# Altium footprint library WR-TBL_Spring Clamp_3.50mm.PcbLib: 77 footprints (part 4 of 5)
Each footprint in its own frame and in the unit in brackets; x right, y up, seen from the top. Pads: shape width x height; smd on the part's side, far side on the other; paste and mask are expansions set on the pad; w line width, h text height; cw(c..) or ccw(c..) is an arc to the next point about the centre after c.
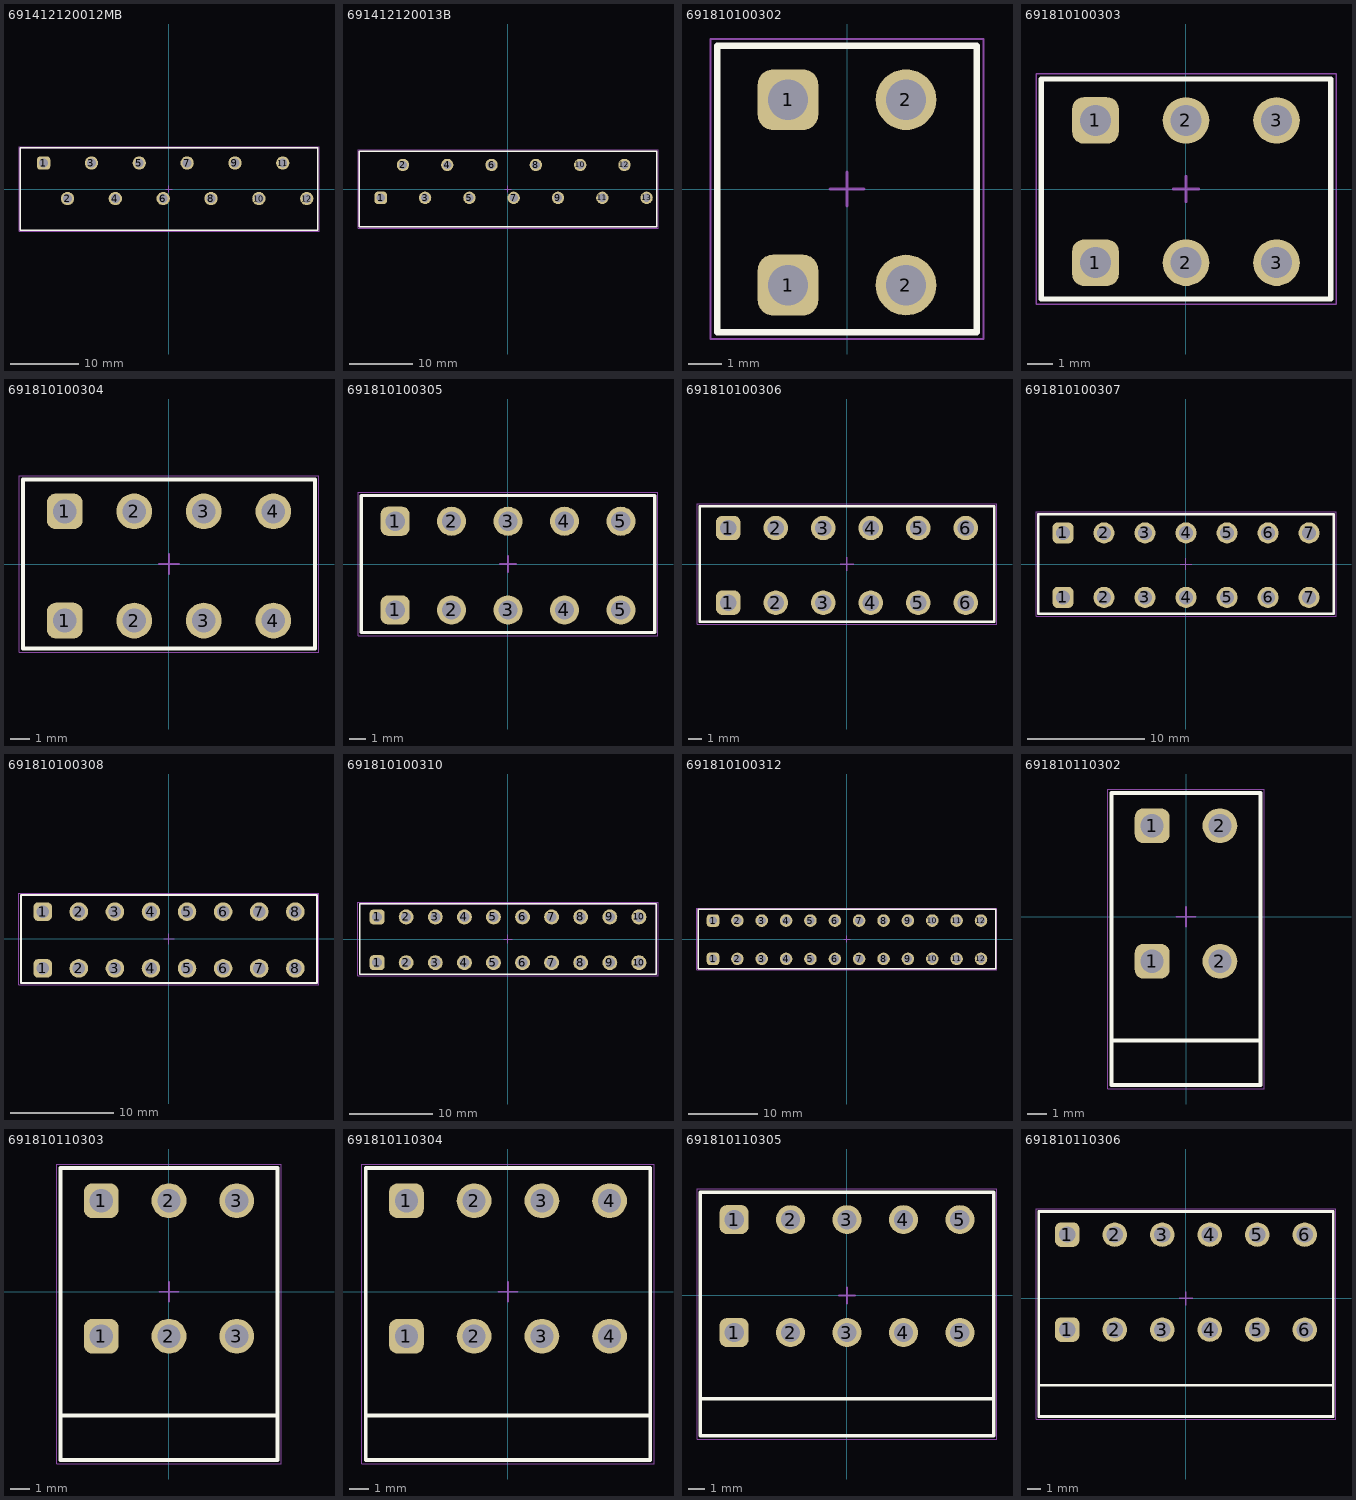
[diagram p3: the footprints below, top view; thin cyan lines are the x and y axes]

## 691412120012MB [mm] "3,5mm - Spring clamp/Screw less - 45¡ã entry - 12p"
height 11.5
pads (12):
  rrect50% 1.95x1.95 hole 1.3: 1(-18.35,3.8)
  round 1.95 hole 1.3: 2(-14.85,-1.4) 3(-11.35,3.8) 4(-7.85,-1.4) 5(-4.35,3.8) 6(-0.85,-1.4) 7(2.65,3.8) 8(6.15,-1.4) 9(9.65,3.8) 10(13.15,-1.4) 11(16.65,3.8) 12(20.15,-1.4)
Top Overlay:
  lines w0.2: -21.75,-6 21.75,-6 21.75,6 -21.75,6 -21.75,-6
Top Assembly:
  lines w0.1: -21.75,-6 -21.75,6 21.75,6 21.75,-6 -21.75,-6
Top Designator:
  text ".Designator" at -3.647,-0.357 h1
Top 3D Body:
  lines w0.1: -21.75,-6 21.75,-6 21.75,6 -21.75,6 -21.75,-6
Top Courtyard:
  lines w0.05: -21.95,-6.2 -21.95,6.2 21.95,6.2 21.95,-6.2 -21.95,-6.2
Top Component Center:
  lines w0.1: -0.5,0 0.5,0 ; 0,-0.5 0,0.5
3D body "691412120012MB.stp": height 12.85, standoff -3.45, extent -21.75,-6 21.75,6

## 691412120013B [mm] "3,5mm - Spring clamp/Screw less - 45¡ã entry - 13p"
height 12.8
pads (13):
  rrect50% 1.95x1.95 hole 1.3: 1(-20.1,-1.4)
  round 1.95 hole 1.3: 2(-16.6,3.8) 3(-13.1,-1.4) 4(-9.6,3.8) 5(-6.1,-1.4) 6(-2.6,3.8) 7(0.9,-1.4) 8(4.4,3.8) 9(7.9,-1.4) 10(11.4,3.8) 11(14.9,-1.4) 12(18.4,3.8) 13(21.9,-1.4)
Top Overlay:
  lines w0.2: -23.5,-6 23.5,-6 23.5,6 -23.5,6 -23.5,-6
Top Assembly:
  lines w0.1: -23.5,-6 -23.5,6 23.5,6 23.5,-6 -23.5,-6
Top Designator:
  text ".Designator" at -3.647,-0.357 h1
Top 3D Body:
  lines w0.1: -23.5,-6 23.5,-6 23.5,6 -23.5,6 -23.5,-6
Top Courtyard:
  lines w0.05: -23.7,-6.2 23.7,-6.2 23.7,6.2 -23.7,6.2 -23.7,-6.2
Top Component Center:
  lines w0.1: -0.5,0 0.5,0 ; 0,-0.5 0,0.5
3D body "691412120013B.stp": height 12.85, standoff -3.45, extent -23.5,-6 23.5,6

## 691810100302 [mm] "Terminal Block, Black, Screwless Vertical, pitch 3.5mm, 2p"
height 16.1
pads (4):
  rrect50% 1.8x1.8 hole 1.2: 1(-1.75,-2.85) 1(-1.75,2.65)
  round 1.8 hole 1.2: 2(1.75,-2.85) 2(1.75,2.65)
Top Overlay:
  lines w0.2: -3.85,-4.25 3.85,-4.25 3.85,4.25 -3.85,4.25 -3.85,-4.25
Top Assembly:
  lines w0.1: -3.85,-4.25 3.85,-4.25 3.85,4.25 -3.85,4.25 -3.85,-4.25
Top Designator:
  text ".Designator" at -3.647,-0.357 h1
Top 3D Body:
  lines w0.1: -3.85,-4.25 3.85,-4.25 3.85,4.25 -3.85,4.25 -3.85,-4.25
Top Courtyard:
  lines w0.05: -4.05,-4.45 4.05,-4.45 4.05,4.45 -4.05,4.45 -4.05,-4.45
Top Component Center:
  lines w0.1: -0.5,0 0.5,0 ; 0,-0.5 0,0.5
3D body "691810100002.stp": height 15.2, standoff -2.41, extent -3.85,-4.25 3.85,4.25

## 691810100303 [mm] "Terminal Block, Black, Screwless Vertical, pitch 3.5mm, 3p"
height 16.1
pads (6):
  rrect50% 1.8x1.8 hole 1.2: 1(-3.5,-2.85) 1(-3.5,2.65)
  round 1.8 hole 1.2: 2(0,-2.85) 2(0,2.65) 3(3.5,-2.85) 3(3.5,2.65)
Top Overlay:
  lines w0.2: -5.6,-4.25 -5.6,4.25 5.6,4.25 5.6,-4.25 -5.6,-4.25
Top Assembly:
  lines w0.1: -5.6,-4.25 -5.6,4.25 5.6,4.25 5.6,-4.25 -5.6,-4.25
Top Designator:
  text ".Designator" at -3.647,-0.357 h1
Top 3D Body:
  lines w0.1: -5.6,-4.25 -5.6,4.25 5.6,4.25 5.6,-4.25 -5.6,-4.25
Top Courtyard:
  lines w0.05: -5.8,-4.45 -5.8,4.45 5.8,4.45 5.8,-4.45 -5.8,-4.45
Top Component Center:
  lines w0.1: -0.5,0 0.5,0 ; 0,-0.5 0,0.5
3D body "691810100003.stp": height 15.2, standoff -2.41, extent -5.6,-4.25 5.6,4.25

## 691810100304 [mm] "Terminal Block, Black, Screwless Vertical, pitch 3.5mm, 4p"
height 16.1
pads (8):
  rrect50% 1.8x1.8 hole 1.2: 1(-5.25,-2.85) 1(-5.25,2.65)
  round 1.8 hole 1.2: 2(-1.75,-2.85) 2(-1.75,2.65) 3(1.75,-2.85) 3(1.75,2.65) 4(5.25,-2.85) 4(5.25,2.65)
Top Overlay:
  lines w0.2: -7.35,-4.25 7.35,-4.25 7.35,4.25 -7.35,4.25 -7.35,-4.25
Top Assembly:
  lines w0.1: -7.35,-4.25 7.35,-4.25 7.35,4.25 -7.35,4.25 -7.35,-4.25
Top Designator:
  text ".Designator" at -3.647,-0.357 h1
Top 3D Body:
  lines w0.1: -7.35,-4.25 7.35,-4.25 7.35,4.25 -7.35,4.25 -7.35,-4.25
Top Courtyard:
  lines w0.05: -7.55,-4.45 7.55,-4.45 7.55,4.45 -7.55,4.45 -7.55,-4.45
Top Component Center:
  lines w0.1: -0.5,0 0.5,0 ; 0,-0.5 0,0.5
3D body "691810100004.stp": height 15.2, standoff -2.41, extent -7.35,-4.25 7.35,4.25

## 691810100305 [mm] "Terminal Block, Black, Screwless Vertical, pitch 3.5mm, 5p"
height 16.1
pads (10):
  rrect50% 1.8x1.8 hole 1.2: 1(-7,-2.85) 1(-7,2.65)
  round 1.8 hole 1.2: 2(-3.5,-2.85) 2(-3.5,2.65) 3(0,-2.85) 3(0,2.65) 4(3.5,-2.85) 4(3.5,2.65) 5(7,-2.85) 5(7,2.65)
Top Overlay:
  lines w0.2: -9.1,-4.25 -9.1,4.25 9.1,4.25 9.1,-4.25 -9.1,-4.25
Top Assembly:
  lines w0.1: -9.1,-4.25 -9.1,4.25 9.1,4.25 9.1,-4.25 -9.1,-4.25
Top Designator:
  text ".Designator" at -3.647,-0.357 h1
Top 3D Body:
  lines w0.1: -9.1,-4.25 -9.1,4.25 9.1,4.25 9.1,-4.25 -9.1,-4.25
Top Courtyard:
  lines w0.05: -9.3,-4.45 -9.3,4.45 9.3,4.45 9.3,-4.45 -9.3,-4.45
Top Component Center:
  lines w0.1: -0.5,0 0.5,0 ; 0,-0.5 0,0.5
3D body "691810100005.stp": height 15.2, standoff -2.41, extent -9.1,-4.25 9.1,4.25

## 691810100306 [mm] "Terminal Block, Black, Screwless Vertical, pitch 3.5mm, 6p"
height 16.1
pads (12):
  rrect50% 1.8x1.8 hole 1.2: 1(-8.75,-2.85) 1(-8.75,2.65)
  round 1.8 hole 1.2: 2(-5.25,-2.85) 2(-5.25,2.65) 3(-1.75,-2.85) 3(-1.75,2.65) 4(1.75,-2.85) 4(1.75,2.65) 5(5.25,-2.85) 5(5.25,2.65) 6(8.75,-2.85) 6(8.75,2.65)
Top Overlay:
  lines w0.2: -10.85,-4.25 -10.85,4.25 10.85,4.25 10.85,-4.25 -10.85,-4.25
Top Assembly:
  lines w0.1: -10.85,-4.25 -10.85,4.25 10.85,4.25 10.85,-4.25 -10.85,-4.25
Top Designator:
  text ".Designator" at -3.647,-0.357 h1
Top 3D Body:
  lines w0.1: -10.85,-4.25 -10.85,4.25 10.85,4.25 10.85,-4.25 -10.85,-4.25
Top Courtyard:
  lines w0.05: -11.05,-4.45 -11.05,4.45 11.05,4.45 11.05,-4.45 -11.05,-4.45
Top Component Center:
  lines w0.1: -0.5,0 0.5,0 ; 0,-0.5 0,0.5
3D body "691810100006.stp": height 15.2, standoff -2.41, extent -10.85,-4.25 10.85,4.25

## 691810100307 [mm] "Terminal Block, Black, Screwless Vertical, pitch 3.5mm, 7p"
height 16.1
pads (14):
  rrect50% 1.8x1.8 hole 1.2: 1(-10.5,-2.85) 1(-10.5,2.65)
  round 1.8 hole 1.2: 2(-7,-2.85) 2(-7,2.65) 3(-3.5,-2.85) 3(-3.5,2.65) 4(0,-2.85) 4(0,2.65) 5(3.5,-2.85) 5(3.5,2.65) 6(7,-2.85) 6(7,2.65) 7(10.5,-2.85) 7(10.5,2.65)
Top Overlay:
  lines w0.2: -12.6,-4.25 -12.6,4.25 12.6,4.25 12.6,-4.25 -12.6,-4.25
Top Assembly:
  lines w0.1: -12.6,-4.25 -12.6,4.25 12.6,4.25 12.6,-4.25 -12.6,-4.25
Top Designator:
  text ".Designator" at -3.647,-0.357 h1
Top 3D Body:
  lines w0.1: -12.6,-4.25 -12.6,4.25 12.6,4.25 12.6,-4.25 -12.6,-4.25
Top Courtyard:
  lines w0.05: -12.8,-4.45 -12.8,4.45 12.8,4.45 12.8,-4.45 -12.8,-4.45
Top Component Center:
  lines w0.1: -0.5,0 0.5,0 ; 0,-0.5 0,0.5
3D body "691810100007.stp": height 15.2, standoff -2.41, extent -12.6,-4.25 12.6,4.25

## 691810100308 [mm] "Terminal Block, Black, Screwless Vertical, pitch 3.5mm, 8p"
height 16.1
pads (16):
  rrect50% 1.8x1.8 hole 1.2: 1(-12.25,-2.85) 1(-12.25,2.65)
  round 1.8 hole 1.2: 2(-8.75,-2.85) 2(-8.75,2.65) 3(-5.25,-2.85) 3(-5.25,2.65) 4(-1.75,-2.85) 4(-1.75,2.65) 5(1.75,-2.85) 5(1.75,2.65) 6(5.25,-2.85) 6(5.25,2.65) 7(8.75,-2.85) 7(8.75,2.65) 8(12.25,-2.85) 8(12.25,2.65)
Top Overlay:
  lines w0.2: -14.35,-4.25 14.35,-4.25 14.35,4.25 -14.35,4.25 -14.35,-4.25
Top Assembly:
  lines w0.1: -14.35,-4.25 14.35,-4.25 14.35,4.25 -14.35,4.25 -14.35,-4.25
Top Designator:
  text ".Designator" at -3.647,-0.357 h1
Top 3D Body:
  lines w0.1: -14.35,-4.25 14.35,-4.25 14.35,4.25 -14.35,4.25 -14.35,-4.25
Top Courtyard:
  lines w0.05: -14.55,-4.45 14.55,-4.45 14.55,4.45 -14.55,4.45 -14.55,-4.45
Top Component Center:
  lines w0.1: -0.5,0 0.5,0 ; 0,-0.5 0,0.5
3D body "691810100008.stp": height 15.2, standoff -2.41, extent -14.35,-4.25 14.35,4.25

## 691810100310 [mm] "Terminal Block, Black, Screwless Vertical, pitch 3.5mm, 10p"
height 16.1
pads (20):
  rrect50% 1.8x1.8 hole 1.2: 1(-15.75,-2.85) 1(-15.75,2.65)
  round 1.8 hole 1.2: 2(-12.25,-2.85) 2(-12.25,2.65) 3(-8.75,-2.85) 3(-8.75,2.65) 4(-5.25,-2.85) 4(-5.25,2.65) 5(-1.75,-2.85) 5(-1.75,2.65) 6(1.75,-2.85) 6(1.75,2.65) 7(5.25,-2.85) 7(5.25,2.65) 8(8.75,-2.85) 8(8.75,2.65) 9(12.25,-2.85) 9(12.25,2.65) 10(15.75,-2.85) 10(15.75,2.65)
Top Overlay:
  lines w0.2: -17.85,-4.25 17.85,-4.25 17.85,4.25 -17.85,4.25 -17.85,-4.25
Top Assembly:
  lines w0.1: -17.85,-4.25 17.85,-4.25 17.85,4.25 -17.85,4.25 -17.85,-4.25
Top Designator:
  text ".Designator" at -3.647,-0.357 h1
Top 3D Body:
  lines w0.1: -17.85,-4.25 17.85,-4.25 17.85,4.25 -17.85,4.25 -17.85,-4.25
Top Courtyard:
  lines w0.05: -18.05,-4.45 18.05,-4.45 18.05,4.45 -18.05,4.45 -18.05,-4.45
Top Component Center:
  lines w0.1: -0.5,0 0.5,0 ; 0,-0.5 0,0.5
3D body "691810100010.stp": height 15.2, standoff -2.41, extent -17.85,-4.25 17.85,4.25

## 691810100312 [mm] "Terminal Block, Black, Screwless Vertical, pitch 3.5mm, 12p"
height 16.1
pads (24):
  rrect50% 1.8x1.8 hole 1.2: 1(-19.25,-2.85) 1(-19.25,2.65)
  round 1.8 hole 1.2: 2(-15.75,-2.85) 2(-15.75,2.65) 3(-12.25,-2.85) 3(-12.25,2.65) 4(-8.75,-2.85) 4(-8.75,2.65) 5(-5.25,-2.85) 5(-5.25,2.65) 6(-1.75,-2.85) 6(-1.75,2.65) 7(1.75,-2.85) 7(1.75,2.65) 8(5.25,-2.85) 8(5.25,2.65) 9(8.75,-2.85) 9(8.75,2.65) 10(12.25,-2.85) 10(12.25,2.65) 11(15.75,-2.85) 11(15.75,2.65) 12(19.25,-2.85) 12(19.25,2.65)
Top Overlay:
  lines w0.2: -21.35,-4.25 -21.35,4.25 21.35,4.25 21.35,-4.25 -21.35,-4.25
Top Assembly:
  lines w0.1: -21.35,-4.25 -21.35,4.25 21.35,4.25 21.35,-4.25 -21.35,-4.25
Top Designator:
  text ".Designator" at -3.647,-0.357 h1
Top 3D Body:
  lines w0.1: -21.35,-4.25 -21.35,4.25 21.35,4.25 21.35,-4.25 -21.35,-4.25
Top Courtyard:
  lines w0.05: -21.55,-4.45 -21.55,4.45 21.55,4.45 21.55,-4.45 -21.55,-4.45
Top Component Center:
  lines w0.1: -0.5,0 0.5,0 ; 0,-0.5 0,0.5
3D body "691810100012.stp": height 15.2, standoff -2.41, extent -21.35,-4.25 21.35,4.25

## 691810110302 [mm] "Terminal Block, Black, THR, Screwless Horizontal, pitch 3.5mm, 2p"
height 8.5
pads (4):
  rrect50% 1.8x1.8 hole 1.2: 1(-1.75,-2.3) 1(-1.75,4.7)
  round 1.8 hole 1.2: 2(1.75,-2.3) 2(1.75,4.7)
Top Overlay:
  lines w0.2: -3.85,-6.4 3.85,-6.4 ; -3.85,-8.7 -3.85,6.4 3.85,6.4 3.85,-8.7 -3.85,-8.7
Top Assembly:
  lines w0.1: -3.85,-6.4 3.85,-6.4 ; -3.85,-8.7 3.85,-8.7 3.85,6.4 -3.85,6.4 -3.85,-8.7
Top Designator:
  text ".Designator" at -3.647,-0.357 h1
Top 3D Body:
  lines w0.1: -3.85,-6.4 3.85,-6.4 ; -3.85,-8.7 3.85,-8.7 3.85,6.4 -3.85,6.4 -3.85,-8.7
Top Courtyard:
  lines w0.05: -4.05,-8.9 -4.05,6.6 4.05,6.6 4.05,-8.9 -4.05,-8.9
Top Component Center:
  lines w0.1: -0.5,0 0.5,0 ; 0,-0.5 0,0.5
3D body "691810110302.stp": height 8.58, standoff -2.42, extent -3.85,-8.7 3.85,6.4

## 691810110303 [mm] "Terminal Block, Black, THR, Screwless Horizontal, pitch 3.5mm, 3p"
height 8.5
pads (6):
  rrect50% 1.8x1.8 hole 1.2: 1(-3.5,-2.3) 1(-3.5,4.7)
  round 1.8 hole 1.2: 2(0,-2.3) 2(0,4.7) 3(3.5,-2.3) 3(3.5,4.7)
Top Overlay:
  lines w0.2: -5.6,-6.4 5.6,-6.4 ; -5.6,-8.7 5.6,-8.7 5.6,6.4 -5.6,6.4 -5.6,-8.7
Top Assembly:
  lines w0.1: -5.6,-6.4 5.6,-6.4 ; -5.6,-8.7 -5.6,6.4 5.6,6.4 5.6,-8.7 -5.6,-8.7
Top Designator:
  text ".Designator" at -3.647,-0.357 h1
Top 3D Body:
  lines w0.1: -5.6,-6.4 5.6,-6.4 ; -5.6,-8.7 -5.6,6.4 5.6,6.4 5.6,-8.7 -5.6,-8.7
Top Courtyard:
  lines w0.05: -5.8,-8.9 5.8,-8.9 5.8,6.6 -5.8,6.6 -5.8,-8.9
Top Component Center:
  lines w0.1: -0.5,0 0.5,0 ; 0,-0.5 0,0.5
3D body "691810110303.stp": height 8.58, standoff -2.42, extent -5.6,-8.7 5.6,6.4

## 691810110304 [mm] "Terminal Block, Black, THR, Screwless Horizontal, pitch 3.5mm, 4p"
height 8.5
pads (8):
  rrect50% 1.8x1.8 hole 1.2: 1(-5.25,-2.3) 1(-5.25,4.7)
  round 1.8 hole 1.2: 2(-1.75,-2.3) 2(-1.75,4.7) 3(1.75,-2.3) 3(1.75,4.7) 4(5.25,-2.3) 4(5.25,4.7)
Top Overlay:
  lines w0.2: -7.35,-6.4 7.35,-6.4 ; -7.35,-8.7 7.35,-8.7 7.35,6.4 -7.35,6.4 -7.35,-8.7
Top Assembly:
  lines w0.1: -7.35,-6.4 7.35,-6.4 ; -7.35,-8.7 -7.35,6.4 7.35,6.4 7.35,-8.7 -7.35,-8.7
Top Designator:
  text ".Designator" at -3.647,-0.357 h1
Top 3D Body:
  lines w0.1: -7.35,-6.4 7.35,-6.4 ; -7.35,-8.7 -7.35,6.4 7.35,6.4 7.35,-8.7 -7.35,-8.7
Top Courtyard:
  lines w0.05: -7.55,-8.9 7.55,-8.9 7.55,6.6 -7.55,6.6 -7.55,-8.9
Top Component Center:
  lines w0.1: -0.5,0 0.5,0 ; 0,-0.5 0,0.5
3D body "691810110304.stp": height 8.58, standoff -2.42, extent -7.35,-8.7 7.35,6.4

## 691810110305 [mm] "Terminal Block, Black, THR, Screwless Horizontal, pitch 3.5mm, 5p"
height 8.5
pads (10):
  rrect50% 1.8x1.8 hole 1.2: 1(-7,-2.3) 1(-7,4.7)
  round 1.8 hole 1.2: 2(-3.5,-2.3) 2(-3.5,4.7) 3(0,-2.3) 3(0,4.7) 4(3.5,-2.3) 4(3.5,4.7) 5(7,-2.3) 5(7,4.7)
Top Overlay:
  lines w0.2: -9.1,-6.4 9.1,-6.4 ; -9.1,-8.7 -9.1,6.4 9.1,6.4 9.1,-8.7 -9.1,-8.7
Top Assembly:
  lines w0.1: -9.1,-6.4 9.1,-6.4 ; -9.1,-8.7 9.1,-8.7 9.1,6.4 -9.1,6.4 -9.1,-8.7
Top Designator:
  text ".Designator" at -3.647,-0.357 h1
Top 3D Body:
  lines w0.1: -9.1,-6.4 9.1,-6.4 ; -9.1,-8.7 9.1,-8.7 9.1,6.4 -9.1,6.4 -9.1,-8.7
Top Courtyard:
  lines w0.05: -9.3,-8.9 -9.3,6.6 9.3,6.6 9.3,-8.9 -9.3,-8.9
Top Component Center:
  lines w0.1: -0.5,0 0.5,0 ; 0,-0.5 0,0.5
3D body "691810110305.stp": height 8.58, standoff -2.42, extent -9.1,-8.7 9.1,6.4

## 691810110306 [mm] "Terminal Block, Black, THR, Screwless Horizontal, pitch 3.5mm, 6p"
height 8.5
pads (12):
  rrect50% 1.8x1.8 hole 1.2: 1(-8.75,-2.3) 1(-8.75,4.7)
  round 1.8 hole 1.2: 2(-5.25,-2.3) 2(-5.25,4.7) 3(-1.75,-2.3) 3(-1.75,4.7) 4(1.75,-2.3) 4(1.75,4.7) 5(5.25,-2.3) 5(5.25,4.7) 6(8.75,-2.3) 6(8.75,4.7)
Top Overlay:
  lines w0.2: -10.85,-6.4 10.85,-6.4 ; -10.85,-8.7 10.85,-8.7 10.85,6.4 -10.85,6.4 -10.85,-8.7
Top Assembly:
  lines w0.1: -10.85,-6.4 10.85,-6.4 ; -10.85,-8.7 -10.85,6.4 10.85,6.4 10.85,-8.7 -10.85,-8.7
Top Designator:
  text ".Designator" at -3.647,-0.357 h1
Top 3D Body:
  lines w0.1: -10.85,-6.4 10.85,-6.4 ; -10.85,-8.7 -10.85,6.4 10.85,6.4 10.85,-8.7 -10.85,-8.7
Top Courtyard:
  lines w0.05: -11.05,-8.9 11.05,-8.9 11.05,6.6 -11.05,6.6 -11.05,-8.9
Top Component Center:
  lines w0.1: -0.5,0 0.5,0 ; 0,-0.5 0,0.5
3D body "691810110306.stp": height 8.58, standoff -2.42, extent -10.85,-8.7 10.85,6.4